# Altium footprint library TO220_ST.PcbLib: 1 footprints
Each footprint in its own frame and in the unit in brackets; x right, y up, seen from the top. Pads: shape width x height; smd on the part's side, far side on the other; paste and mask are expansions set on the pad; w line width, h text height; cw(c..) or ccw(c..) is an arc to the next point about the centre after c.
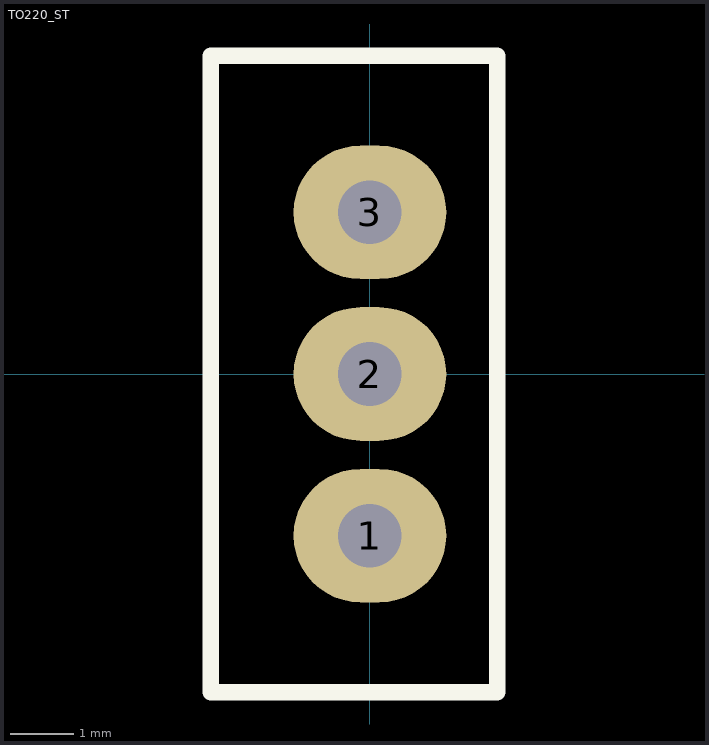
[diagram p0: the footprint, top view; thin cyan lines are the x and y axes]

## TO220_ST [mm] "ST Micro TO-220 package"
pads (3):
  oval 2.4x2.1 hole 1: 1(0,-2.54) 2(0,0) 3(0,2.54)
Top Overlay:
  lines w0.254: -2.5,-5 2,-5 2,5 -2.5,5 -2.5,-5